# EAGLE library part DDR3-SODIMM (library debauer_con)
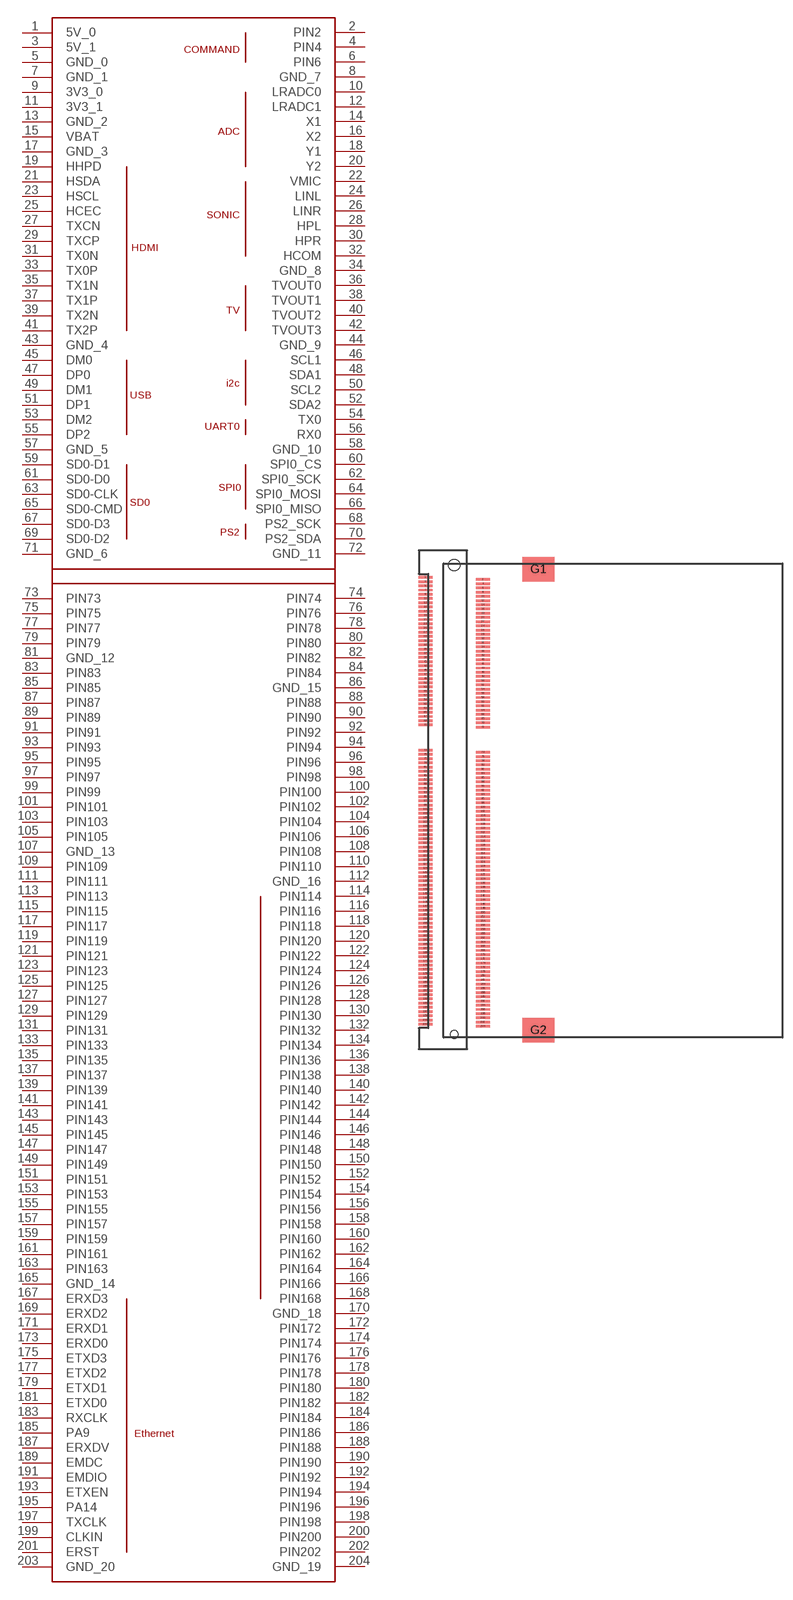
[diagram p0: symbol with the pads of DDR3-SO-DIMM-2013289-1; footprint DDR3-SO-DIMM-2013289-1]

Designator prefix -

## DDR3-SODIMM  [DDR3-SO-DIMM-2013289-1]
1  5V_0
2  PIN2
3  5V_1
4  PIN4
5  GND_0
6  PIN6
7  GND_1
8  GND_7
9  3V3_0
10  LRADC0
11  3V3_1
12  LRADC1
13  GND_2
14  X1
15  VBAT
16  X2
17  GND_3
18  Y1
19  HHPD
20  Y2
21  HSDA
22  VMIC
23  HSCL
24  LINL
25  HCEC
26  LINR
27  TXCN
28  HPL
29  TXCP
30  HPR
31  TX0N
32  HCOM
33  TX0P
34  GND_8
35  TX1N
36  TVOUT0
37  TX1P
38  TVOUT1
39  TX2N
40  TVOUT2
41  TX2P
42  TVOUT3
43  GND_4
44  GND_9
45  DM0
46  SCL1
47  DP0
48  SDA1
49  DM1
50  SCL2
51  DP1
52  SDA2
53  DM2
54  TX0
55  DP2
56  RX0
57  GND_5
58  GND_10
59  SD0-D1
60  SPI0_CS
61  SD0-D0
62  SPI0_SCK
63  SD0-CLK
64  SPI0_MOSI
65  SD0-CMD
66  SPI0_MISO
67  SD0-D3
68  PS2_SCK
69  SD0-D2
70  PS2_SDA
71  GND_6
72  GND_11
73  PIN73
74  PIN74
75  PIN75
76  PIN76
77  PIN77
78  PIN78
79  PIN79
80  PIN80
81  GND_12
82  PIN82
83  PIN83
84  PIN84
85  PIN85
86  GND_15
87  PIN87
88  PIN88
89  PIN89
90  PIN90
91  PIN91
92  PIN92
93  PIN93
94  PIN94
95  PIN95
96  PIN96
97  PIN97
98  PIN98
99  PIN99
100  PIN100
101  PIN101
102  PIN102
103  PIN103
104  PIN104
105  PIN105
106  PIN106
107  GND_13
108  PIN108
109  PIN109
110  PIN110
111  PIN111
112  GND_16
113  PIN113
114  PIN114
115  PIN115
116  PIN116
117  PIN117
118  PIN118
119  PIN119
120  PIN120
121  PIN121
122  PIN122
123  PIN123
124  PIN124
125  PIN125
126  PIN126
127  PIN127
128  PIN128
129  PIN129
130  PIN130
131  PIN131
132  PIN132
133  PIN133
134  PIN134
135  PIN135
136  PIN136
137  PIN137
138  PIN138
139  PIN139
140  PIN140
141  PIN141
142  PIN142
143  PIN143
144  PIN144
145  PIN145
146  PIN146
147  PIN147
148  PIN148
149  PIN149
150  PIN150
151  PIN151
152  PIN152
153  PIN153
154  PIN154
155  PIN155
156  PIN156
157  PIN157
158  PIN158
159  PIN159
160  PIN160
161  PIN161
162  PIN162
163  PIN163
164  PIN164
165  GND_14
166  PIN166
167  ERXD3
168  PIN168
169  ERXD2
170  GND_18
171  ERXD1
172  PIN172
173  ERXD0
174  PIN174
175  ETXD3
176  PIN176
177  ETXD2
178  PIN178
179  ETXD1
180  PIN180
181  ETXD0
182  PIN182
183  RXCLK
184  PIN184
185  PA9
186  PIN186
187  ERXDV
188  PIN188
189  EMDC
190  PIN190
191  EMDIO
192  PIN192
193  ETXEN
194  PIN194
195  PA14
196  PIN196
197  TXCLK
198  PIN198
199  CLKIN
200  PIN200
201  ERST
202  PIN202
203  GND_20
204  GND_19

## Footprint DDR3-SO-DIMM-2013289-1 (pad centres in mm)
smd 2 x 0.35: 1 -4.1,0; 2 4.1,-0.3; 3 -4.1,-0.6; 4 4.1,-0.9; 5 -4.1,-1.2; 6 4.1,-1.5; 7 -4.1,-1.8; 8 4.1,-2.1; 9 -4.1,-2.4; 10 4.1,-2.7; 11 -4.1,-3; 12 4.1,-3.3; 13 -4.1,-3.6; 14 4.1,-3.9; 15 -4.1,-4.2; 16 4.1,-4.5; 17 -4.1,-4.8; 18 4.1,-5.1; 19 -4.1,-5.4; 20 4.1,-5.7; 21 -4.1,-6; 22 4.1,-6.3; 23 -4.1,-6.6; 24 4.1,-6.9; 25 -4.1,-7.2; 26 4.1,-7.5; 27 -4.1,-7.8; 28 4.1,-8.1; 29 -4.1,-8.4; 30 4.1,-8.7; 31 -4.1,-9; 32 4.1,-9.3; 33 -4.1,-9.6; 34 4.1,-9.9; 35 -4.1,-10.2; 36 4.1,-10.5; 37 -4.1,-10.8; 38 4.1,-11.1; 39 -4.1,-11.4; 40 4.1,-11.7; 41 -4.1,-12; 42 4.1,-12.3; 43 -4.1,-12.6; 44 4.1,-12.9; 45 -4.1,-13.2; 46 4.1,-13.5; 47 -4.1,-13.8; 48 4.1,-14.1; 49 -4.1,-14.4; 50 4.1,-14.7; 51 -4.1,-15; 52 4.1,-15.3; 53 -4.1,-15.6; 54 4.1,-15.9; 55 -4.1,-16.2; 56 4.1,-16.5; 57 -4.1,-16.8; 58 4.1,-17.1; 59 -4.1,-17.4; 60 4.1,-17.7; 61 -4.1,-18; 62 4.1,-18.3; 63 -4.1,-18.6; 64 4.1,-18.9; 65 -4.1,-19.2; 66 4.1,-19.5; 67 -4.1,-19.8; 68 4.1,-20.1; 69 -4.1,-20.4; 70 4.1,-20.7; 71 -4.1,-21; 72 4.1,-21.3; 73 -4.1,-24.6; 74 4.1,-24.9; 75 -4.1,-25.2; 76 4.1,-25.5; 77 -4.1,-25.8; 78 4.1,-26.1; 79 -4.1,-26.4; 80 4.1,-26.7; 81 -4.1,-27; 82 4.1,-27.3; 83 -4.1,-27.6; 84 4.1,-27.9; 85 -4.1,-28.2; 86 4.1,-28.5; 87 -4.1,-28.8; 88 4.1,-29.1; 89 -4.1,-29.4; 90 4.1,-29.7; 91 -4.1,-30; 92 4.1,-30.3; 93 -4.1,-30.6; 94 4.1,-30.9; 95 -4.1,-31.2; 96 4.1,-31.5; 97 -4.1,-31.8; 98 4.1,-32.1; 99 -4.1,-32.4; 100 4.1,-32.7; 101 -4.1,-33; 102 4.1,-33.3; 103 -4.1,-33.6; 104 4.1,-33.9; 105 -4.1,-34.2; 106 4.1,-34.5; 107 -4.1,-34.8; 108 4.1,-35.1; 109 -4.1,-35.4; 110 4.1,-35.7; 111 -4.1,-36; 112 4.1,-36.3; 113 -4.1,-36.6; 114 4.1,-36.9; 115 -4.1,-37.2; 116 4.1,-37.5; 117 -4.1,-37.8; 118 4.1,-38.1; 119 -4.1,-38.4; 120 4.1,-38.7; 121 -4.1,-39; 122 4.1,-39.3; 123 -4.1,-39.6; 124 4.1,-39.9; 125 -4.1,-40.2; 126 4.1,-40.5; 127 -4.1,-40.8; 128 4.1,-41.1; 129 -4.1,-41.4; 130 4.1,-41.7; 131 -4.1,-42; 132 4.1,-42.3; 133 -4.1,-42.6; 134 4.1,-42.9; 135 -4.1,-43.2; 136 4.1,-43.5; 137 -4.1,-43.8; 138 4.1,-44.1; 139 -4.1,-44.4; 140 4.1,-44.7; 141 -4.1,-45; 142 4.1,-45.3; 143 -4.1,-45.6; 144 4.1,-45.9; 145 -4.1,-46.2; 146 4.1,-46.5; 147 -4.1,-46.8; 148 4.1,-47.1; 149 -4.1,-47.4; 150 4.1,-47.7; 151 -4.1,-48; 152 4.1,-48.3; 153 -4.1,-48.6; 154 4.1,-48.9; 155 -4.1,-49.2; 156 4.1,-49.5; 157 -4.1,-49.8; 158 4.1,-50.1; 159 -4.1,-50.4; 160 4.1,-50.7; 161 -4.1,-51; 162 4.1,-51.3; 163 -4.1,-51.6; 164 4.1,-51.9; 165 -4.1,-52.2; 166 4.1,-52.5; 167 -4.1,-52.8; 168 4.1,-53.1; 169 -4.1,-53.4; 170 4.1,-53.7; 171 -4.1,-54; 172 4.1,-54.3; 173 -4.1,-54.6; 174 4.1,-54.9; 175 -4.1,-55.2; 176 4.1,-55.5; 177 -4.1,-55.8; 178 4.1,-56.1; 179 -4.1,-56.4; 180 4.1,-56.7; 181 -4.1,-57; 182 4.1,-57.3; 183 -4.1,-57.6; 184 4.1,-57.9; 185 -4.1,-58.2; 186 4.1,-58.5; 187 -4.1,-58.8; 188 4.1,-59.1; 189 -4.1,-59.4; 190 4.1,-59.7; 191 -4.1,-60; 192 4.1,-60.3; 193 -4.1,-60.6; 194 4.1,-60.9; 195 -4.1,-61.2; 196 4.1,-61.5; 197 -4.1,-61.8; 198 4.1,-62.1; 199 -4.1,-62.4; 200 4.1,-62.7; 201 -4.1,-63; 202 4.1,-63.3; 203 -4.1,-63.6; 204 4.1,-63.9
smd 4.6 x 3.5: G1 12,1.15; G2 12,-64.45
hole 1.6 at 0,1.75
hole 1.1 at 0,-65.05